# Altium schematic symbol library Components.SchLib: 15 symbols
Pins are listed as number, name and electrical type; pins without a type are passive.

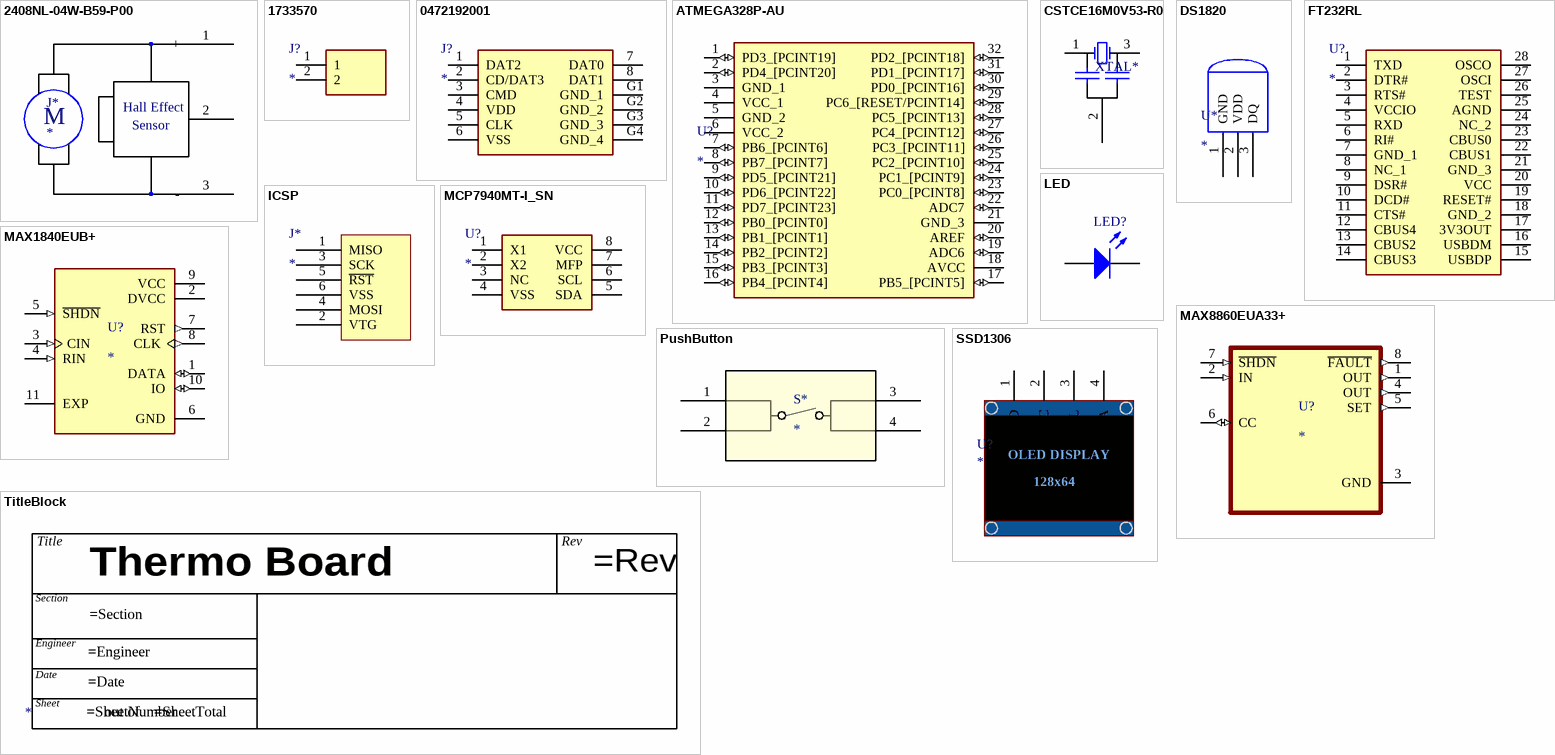
[diagram p0: symbols 2408NL-04W-B59-P00 to TitleBlock]

## 2408NL-04W-B59-P00
designator J*
FAN 12V 3-wire
pins: 1 + (power), 2 Tach, 3 - (power)
text: Hall Effect; M; Sensor

## 1733570
designator J?
Supply Connector; Manufacturer_Name: Phoenix Contact; Manufacturer_Part_Number: 1733570; Datasheet Link: https://componentsearchengine.com/Datasheets/2/1733570.pdf; Height: 15.45mm; Mouser Part Number: 651-1733570; Mouser Price/Stock: https://www.mouser.co.uk/ProductDetail/Phoenix-Contact/1733570/?qs=DAHzmYU9cu14VnPUzxnXpg%3D%3D; Arrow Part Number: 1733570; Arrow Price/Stock: https://www.arrow.com/en/products/1733570/phoenix-contact
footprint 1733570
pins: 1, 2

## 0472192001
designator J?
Micro SD card reader; Manufacturer_Name: Molex; Manufacturer_Part_Number: 0472192001; Datasheet Link: https://www.molex.com/pdm_docs/sd/472192001_sd.pdf; Height: 1.9mm; Mouser Part Number: N/A; Mouser Price/Stock: https://www.mouser.com/Search/Refine.aspx?Keyword=N%2FA; Arrow Part Number: 0472192001; Arrow Price/Stock: https://www.arrow.com/en/products/0472192001/molex
footprint 0472192001
pins: 1 DAT2, 2 CD/DAT3, 3 CMD, 4 VDD, 5 CLK, 6 VSS, 7 DAT0, 8 DAT1, G1 GND_1, G2 GND_2, G3 GND_3, G4 GND_4

## ATMEGA328P-AU
designator U?
ATmega328p-au MCU; Manufacturer_Name: Microchip; Datasheet Link: https://componentsearchengine.com/Datasheets/2/ATMEGA328P-AU.pdf; Height: 1.2mm; Manufacturer_Part_Number: ATMEGA328P-AU; Mouser Part Number: 556-ATMEGA328P-AU; Mouser Price/Stock: https://www.mouser.co.uk/ProductDetail/Microchip-Technology-Atmel/ATMEGA328P-AU/?qs=K8BHR703ZXiCmmgp6%2FGNmQ%3D%3D; Arrow Part Number: ATMEGA328P-AU; Arrow Price/Stock: https://www.arrow.com/en/products/atmega328p-au/microchip-technology
footprint QFP80P900X900X120-32N
pins: 1 PD3_[PCINT19] (io), 2 PD4_[PCINT20] (io), 3 GND_1 (power), 4 VCC_1 (power), 5 GND_2 (power), 6 VCC_2 (power), 7 PB6_[PCINT6] (io), 8 PB7_[PCINT7] (io), 9 PD5_[PCINT21] (io), 10 PD6_[PCINT22] (io), 11 PD7_[PCINT23] (io), 12 PB0_[PCINT0] (io), 13 PB1_[PCINT1] (io), 14 PB2_[PCINT2] (io), 15 PB3_[PCINT3] (io), 16 PB4_[PCINT4] (io), 17 PB5_[PCINT5] (io), 18 AVCC (power), 19 ADC6 (io), 20 AREF (io), 21 GND_3 (power), 22 ADC7 (io), 23 PC0_[PCINT8] (io), 24 PC1_[PCINT9] (io), 25 PC2_[PCINT10] (io), 26 PC3_[PCINT11] (io), 27 PC4_[PCINT12] (io), 28 PC5_[PCINT13] (io), 29 PC6_[RESET/PCINT14] (io), 30 PD0_[PCINT16] (io), 31 PD1_[PCINT17] (io), 32 PD2_[PCINT18] (io)

## CSTCE16M0V53-R0
designator XTAL*  (value not drawn)
CER RES 16.0000MHZ 15PF SMD; Manufacturer: Murata; Manufacturer Part Number: CSTCE16M0V53-R0; Frequency: 16MHz; Frequency Tolerance: 0.5%; Impedance: 40R; Frequency Stability: 0.2%; Supplier 1: Newark; RoHS: Yes; Category: Capacitors; Case/Package: SMD/SMT; Number of Pins: 3; Contact Plating: Gold; Weight: 0.001023oz; Min Operating Temperature: -20°C; Max Operating Temperature: 80°C; Self Resonant Frequency: 16MHz; Load Capacitance: 15pF; Tolerance: 0.5%; Package Quantity: 3000; Capacitance: 15pF; Packaging: Tape and Reel; Termination: SMD/SMT; Resistor Type: Ceramic; Series: CSTCE_V; Length: 3.2mm; Width: 1.3mm; Height: 0.9mm; REACH SVHC: No SVHC; Lead Free: Lead Free; RoHS Compliant: Yes; ComponentLink1URL: https://datasheet.ciiva.com/18183/getdatasheetpartid-152969-18183272.pdf?src-supplier=Verical; ComponentLink1Description: https://datasheet.ciiva.com/18183/getdatasheetpartid-152969-18183272.pdf?src-supplier=Verical; ComponentLink2URL: https://datasheet.ciiva.com/884/p16e-884477.pdf?src-supplier=Digi-Key; ComponentLink2Description: https://datasheet.ciiva.com/884/p16e-884477.pdf?src-supplier=Digi-Key; ComponentLink3URL: https://datasheet.ciiva.com/1361/1506176-1361293.pdf?src-supplier=Element14; ComponentLink3Description: https://datasheet.ciiva.com/1361/1506176-1361293.pdf?src-supplier=Element14; ComponentLink4URL: https://datasheet.ciiva.com/884/p16e-884478.pdf?src-supplier=Digi-Key; ComponentLink4Description: https://datasheet.ciiva.com/884/p16e-884478.pdf?src-supplier=Digi-Key; ComponentLink5URL: https://datasheet.ciiva.com/884/p16e-884479.pdf?src-supplier=Digi-Key; ComponentLink5Description: https://datasheet.ciiva.com/884/p16e-884479.pdf?src-supplier=Digi-Key; ComponentLink6URL: https://datasheet.ciiva.com/14132/ceralock-eng-bro-14132735.pdf?src-supplier=Distrelec; ComponentLink6Description: https://datasheet.ciiva.com/14132/ceralock-eng-bro-14132735.pdf?src-supplier=Distrelec; ComponentLink7URL: https://datasheet.ciiva.com/16216/l0430e-16216847.pdf?src-supplier=Future+Electronics; ComponentLink7Description: https://datasheet.ciiva.com/16216/l0430e-16216847.pdf?src-supplier=Future+Electronics; Supplier Part Number 1: 87X8657
pins: 1 OSC1, 1, 1, 2, 2, 2 GND, 3 OSC2

## DS1820
designator U*
1-wire digital thermometer
pins: 1 GND, 2 VDD, 3 DQ

## FT232RL
designator U?
USB to UART interface; Manufacturer_Name: FTDI Chip; Manufacturer_Part_Number: FT232RL; Datasheet Link: http://www.ftdichip.com/Support/Documents/DataSheets/ICs/DS_FT232R.pdf; Height: 2mm; Arrow Part Number: FT232RL; Arrow Price/Stock: https://www.arrow.com/en/products/ft232rl/ftdi-chip
footprint SOP65P778X200-28N
pins: 1 TXD, 2 DTR#, 3 RTS#, 4 VCCIO, 5 RXD, 6 RI#, 7 GND_1, 8 NC_1, 9 DSR#, 10 DCD#, 11 CTS#, 12 CBUS4, 13 CBUS2, 14 CBUS3, 15 USBDP, 16 USBDM, 17 3V3OUT, 18 GND_2, 19 RESET#, 20 VCC, 21 GND_3, 22 CBUS1, 23 CBUS0, 24 NC_2, 25 AGND, 26 TEST, 27 OSCI, 28 OSCO

## ICSP
designator J*
ICSP Connector
pins: 1 MISO, 2 VTG (power), 3 SCK, 4 MOSI, 5 ~{RST}, 6 VSS (power)

## LED
designator LED?
LED; Published: 8-Jun-2000; LatestRevisionDate: 08-Jul-2005; LatestRevisionNote: Mech Layer 1 removed.; PackageReference: LED-0; Publisher: Altium Limited; PackageDescription: LED; 2 Leads
footprint LED-0 (LED; 2 Leads)
simulation model LED0 (Diode)
pins: 1 A, 2 K

## MAX1840EUB+
designator U?
Level translator; MP: MAX1840EUB+; MF: Maxim Integrated; Value: *; Check_prices: https://www.snapeda.com/parts/MAX1840EUB+/Maxim%20Integrated/view-part/864553/?ref=eda; SnapEDA_Link: https://www.snapeda.com/parts/MAX1840EUB+/Maxim%20Integrated/view-part/864553/?ref=snap; Price: None; Availability: Warning; Purchase-URL: https://pricing.snapeda.com/search/part/MAX1840EUB+/?ref=eda; Package: uMAX-10 Maxim
footprint SOP50P490X110-11N
pins: 1 DATA (io), 2 DVCC (power), 3 CIN (in), 4 RIN (in), 5 ~{SHDN} (in), 6 GND (power), 7 RST (out), 8 CLK (out), 9 VCC (power), 10 IO (io), 11 EXP

## MAX8860EUA33+
designator U?
LDO; MP: MAX8860EUA33T; Package: None; Price: None; Value: *; Availability: Unavailable
footprint SOP65P490X110-8N
pins: 1 OUT (out), 2 IN (in), 3 GND (power), 4 OUT (out), 5 SET (out), 6 CC (io), 7 ~{SHDN} (in), 8 ~{FAULT} (out)

## MCP7940MT-I_SN
designator U?
Real Time Clock; Manufacturer_Name: Microchip; Manufacturer_Part_Number: MCP7940MT-I/SN; Datasheet Link: http://ww1.microchip.com/downloads/en/DeviceDoc/20002292B.pdf; Height: 1.75mm; Mouser Part Number: 579-MCP7940MT-I/SN; Mouser Price/Stock: https://www.mouser.co.uk/ProductDetail/Microchip-Technology/MCP7940MT-I-SN/?qs=V1AtWP4RhX63aO4jkgt0%2FA%3D%3D; Arrow Part Number: MCP7940MT-I/SN; Arrow Price/Stock: https://www.arrow.com/en/products/mcp7940mt-isn/microchip-technology
footprint SOIC127P600X175-8N
pins: 1 X1, 2 X2, 3 NC, 4 VSS, 5 SDA, 6 SCL, 7 MFP, 8 VCC

## PushButton
designator S*
Tactile switch
pins: 1, 2, 3, 4

## SSD1306
designator U?
AZDelivery Display OLED 128x64; Manufacturer_Name: Epson Timing; Manufacturer_Part_Number: X1B000242000112; Datasheet Link: http://www5.epsondevice.com/en/products/i2c/rx8010sj.html - .pdf; Height: 2.85mm
footprint SOIC127P600X285-8N
pins: 1 GND (power), 2 VCC (power), 3 SCL, 4 SDA (power)
text: OLED DISPLAY; 128x64

## TitleBlock
designator *, comment Title Block  (value not drawn)  (graphical)
text: Title; Rev; Thermo Board; Section; Engineer; Date; Sheet; out of